# EAGLE library part GBA-POWER-CONTROLLER-514X (library arcadetv)
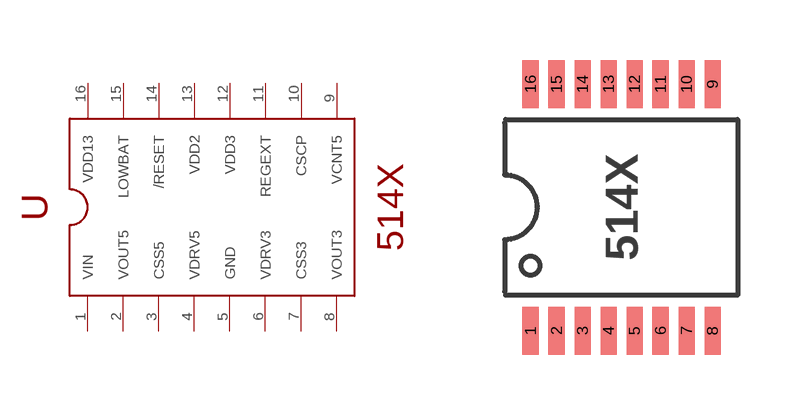
[diagram p20: symbol with the pads of GBA-POWER-CONTROLLER-514X; footprint GBA-POWER-CONTROLLER-514X]

Designator prefix -

## GBA-POWER-CONTROLLER-514X  [GBA-POWER-CONTROLLER-514X]
1  VIN
2  VOUT5
3  CSS5
4  VDRV5
5  GND
6  VDRV3
7  CSS3
8  VOUT3
9  VCNT5
10  CSCP
11  REGEXT
12  VDD3
13  VDD2
14  /RESET
15  LOWBAT
16  VDD13

## Footprint GBA-POWER-CONTROLLER-514X (pad centres in mm)
smd 0.4 x 1.2: 1 -2.275,-3.087; 2 -1.625,-3.087; 3 -0.975,-3.087; 4 -0.325,-3.087; 5 0.325,-3.087; 6 0.975,-3.087; 7 1.625,-3.087; 8 2.275,-3.087; 9 2.275,3.087; 10 1.625,3.087; 11 0.975,3.087; 12 0.325,3.087; 13 -0.325,3.087; 14 -0.975,3.087; 15 -1.625,3.087; 16 -2.275,3.087